# Altium schematic symbol library MCP23S18.SchLib: 1 symbol
Pins are listed as number, name and electrical type; pins without a type are passive.

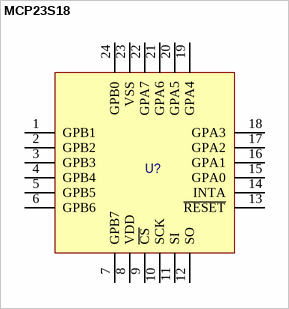
[diagram p0: symbol MCP23S18]

## MCP23S18
designator U?  (value not drawn)
pins: 1 GPB1, 2 GPB2, 3 GPB3, 4 GPB4, 5 GPB5, 6 GPB6, 7 GPB7, 8 VDD, 9 ~{CS}, 10 SCK, 11 SI, 12 SO, 13 ~{RESET}, 14 INTA, 15 GPA0, 16 GPA1, 17 GPA2, 18 GPA3, 19 GPA4, 20 GPA5, 21 GPA6, 22 GPA7, 23 VSS, 24 GPB0
1 alternate drawing of the same symbol